# Altium footprint library Capacitors.PcbLib: 19 footprints (part 2 of 2)
Each footprint in its own frame and in the unit in brackets; x right, y up, seen from the top. Pads: shape width x height; smd on the part's side, far side on the other; paste and mask are expansions set on the pad; w line width, h text height; cw(c..) or ccw(c..) is an arc to the next point about the centre after c.
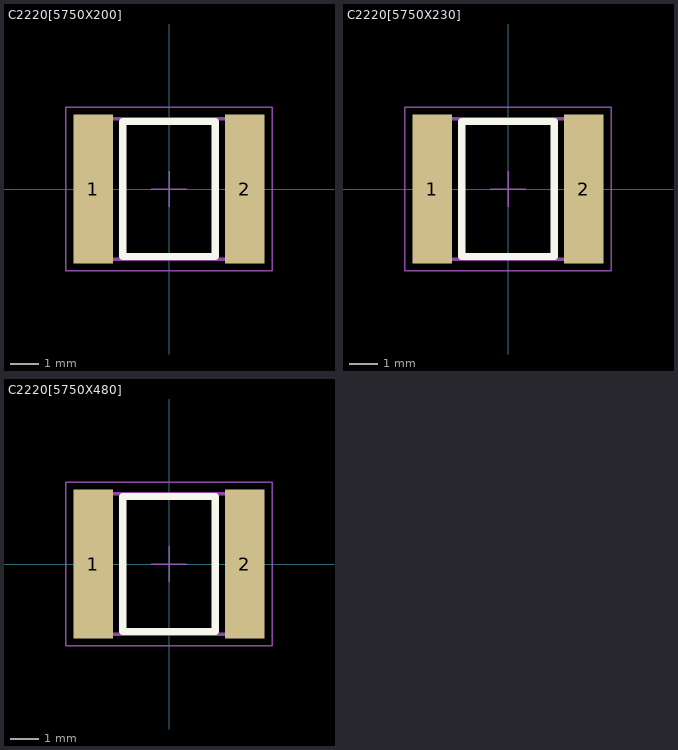
[diagram p1: the footprints below, top view; thin cyan lines are the x and y axes]

## C2220[5750X200] [mm] "Chip Capacitor, Body 5.7x5.0mm"
height 2
pads (2):
  rect 1.4x5.3 smd: 1(-2.7,0) 2(2.7,0)
Top Overlay:
  lines w0.254: -1.651,-2.413 -1.651,2.413 1.651,2.413 1.651,-2.413 -1.651,-2.413
Mechanical 2:
  lines w0.051: -0.635,0 0.635,0 ; 0,-0.635 0,0.635 ; -3.683,-2.921 3.683,-2.921 3.683,2.921 -3.683,2.921 -3.683,-2.921
Mechanical 3:
  lines w0.127: -2.85,-2.5 2.85,-2.5 2.85,2.5 -2.85,2.5 -2.85,-2.5
3D body "CAPC5750X200N EIA 2220.step": height 2.01, standoff 0.01, extent -2.85,-2.5 2.85,2.5

## C2220[5750X230] [mm] "Chip Capacitor, Body 5.7x5.0mm"
height 2
pads (2):
  rect 1.4x5.3 smd: 1(-2.7,0) 2(2.7,0)
Top Overlay:
  lines w0.254: -1.651,-2.413 1.651,-2.413 1.651,2.413 -1.651,2.413 -1.651,-2.413
Mechanical 2:
  lines w0.051: -0.635,0 0.635,0 ; 0,-0.635 0,0.635 ; -3.683,-2.921 -3.683,2.921 3.683,2.921 3.683,-2.921 -3.683,-2.921
Mechanical 3:
  lines w0.127: -2.85,-2.5 -2.85,2.5 2.85,2.5 2.85,-2.5 -2.85,-2.5
3D body "CAPC5750X230N EIA 2220.step": height 2.29, standoff -0.01, extent -2.85,-2.5 2.85,2.5

## C2220[5750X480] [mm] "Chip Capacitor, Body 5.7x5.0mm"
height 2
pads (2):
  rect 1.4x5.3 smd: 1(-2.7,0) 2(2.7,0)
Top Overlay:
  lines w0.254: -1.651,-2.413 1.651,-2.413 1.651,2.413 -1.651,2.413 -1.651,-2.413
Mechanical 2:
  lines w0.051: -0.635,0 0.635,0 ; 0,-0.635 0,0.635 ; -3.683,-2.921 -3.683,2.921 3.683,2.921 3.683,-2.921 -3.683,-2.921
Mechanical 3:
  lines w0.127: -2.85,-2.5 -2.85,2.5 2.85,2.5 2.85,-2.5 -2.85,-2.5
3D body "CAPC5750X230N EIA 2220.step": height 4.58, standoff 2.28, extent -2.85,-2.5 2.85,2.5
3D body "CAPC5750X230N EIA 2220.step": height 2.29, standoff -0.01, extent -2.85,-2.5 2.85,2.5